# Altium footprint library 电机驱动.PcbLib: 12 footprints
Each footprint in its own frame and in the unit in brackets; x right, y up, seen from the top. Pads: shape width x height; smd on the part's side, far side on the other; paste and mask are expansions set on the pad; w line width, h text height; cw(c..) or ccw(c..) is an arc to the next point about the centre after c.
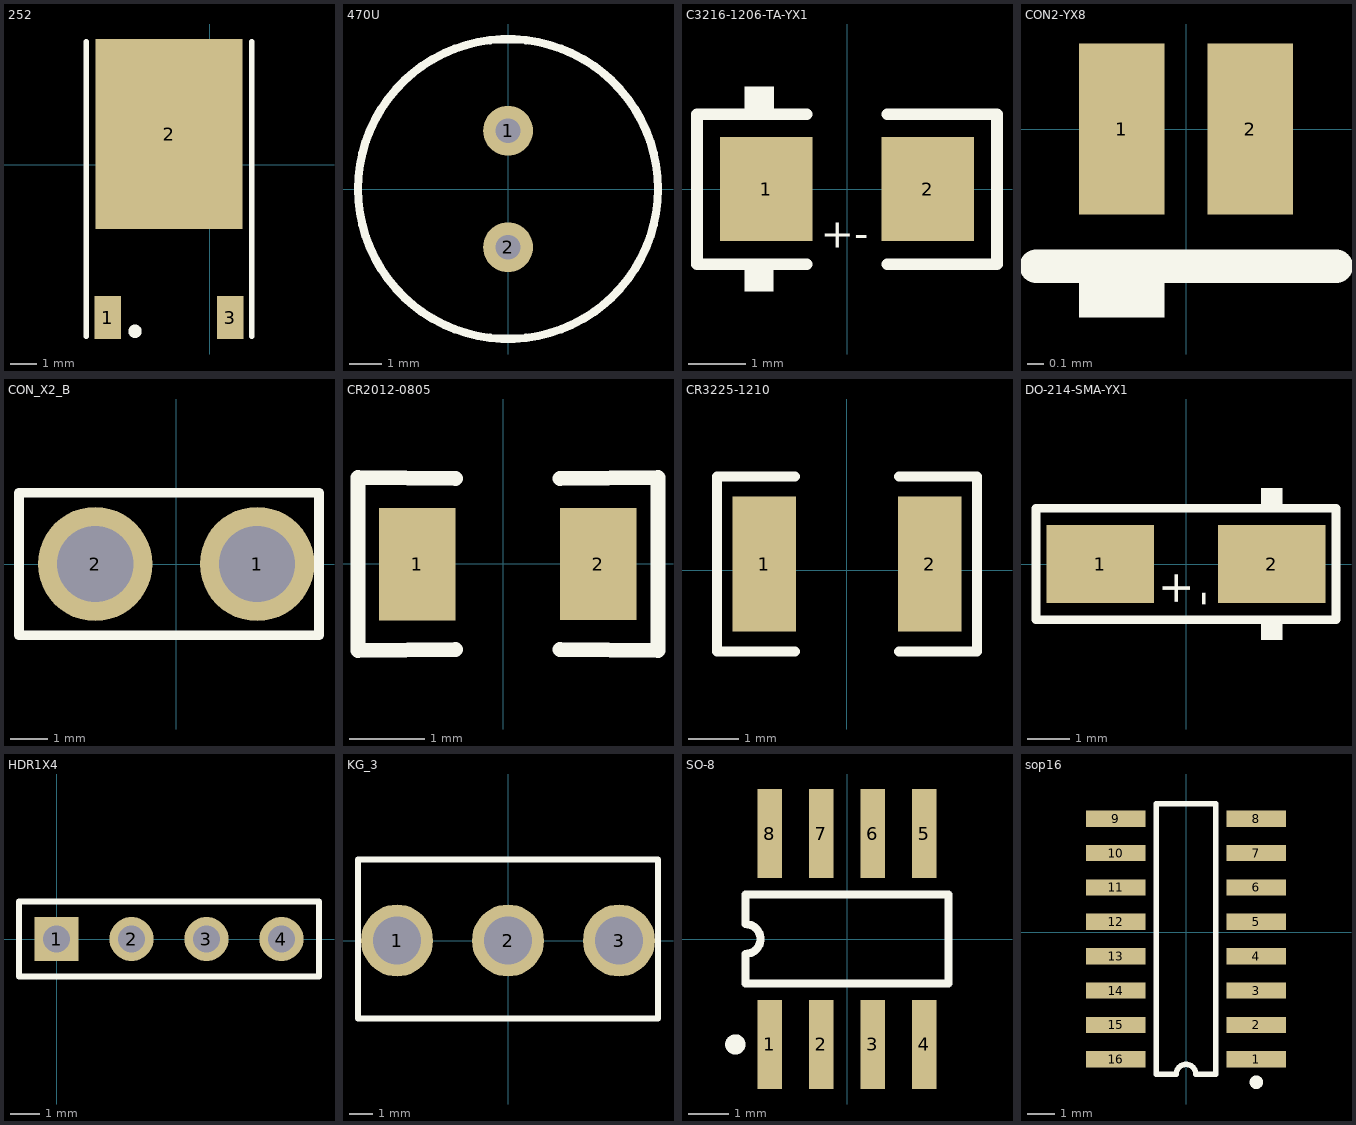
[diagram p0: the footprints below, top view; thin cyan lines are the x and y axes]

## 252 [mm]
pads (3):
  rect 1x1.6 smd: 1(-3.814,-5.71) 3(0.756,-5.71)
  rect 5.5x7.1 smd: 2(-1.529,1.14)
Top Overlay:
  circle w0.25: c-2.797,-6.222 r0.125
  lines w0.2: -4.614,-6.41 -4.614,4.59 ; 1.556,-6.41 1.556,4.59

## 470U [mil]
pads (2):
  round 60 hole 30: 1(-0.19,70.19) 2(-0.19,-69.81)
Top Overlay:
  circle w10: c-0.19,0.19 r180.28

## C3216-1206-TA-YX1 [mm]
pads (2):
  rect 1.6x1.8 smd: 1(-1.4,0) 2(1.4,0)
Top Overlay:
  rectangle: -1.776,1.303 -1.268,1.781
  rectangle: -1.778,-1.778 -1.27,-1.3
  lines w0.2: -0.7,-1.3 -2.6,-1.3 -2.6,1.3 -0.7,1.3 ; 0.7,-1.3 2.6,-1.3 2.6,1.3 0.7,1.3
  text "+" at -0.457,-1.016 h0.51
  text "-" at 0.127,-1.016 h0.51

## CON2-YX8 [mil]
pads (2):
  rect 20x40 smd: 1(-15,0) 2(15,0)
Top Overlay:
  region: -5,-44 -5,-32 -25,-32 -25,-44
  lines w7.87: -35,-32 35,-32

## CON_X2_B [mil]
pads (2):
  round 120 hole 80: 1(84.81,0.19) 2(-85.19,0.19)
Top Overlay:
  lines w10: -165.19,-74.81 -125.19,-74.81 124.81,-74.81 149.81,-74.81 149.81,75.19 124.81,75.19 -125.19,75.19 -165.19,75.19 -165.19,-74.81

## CR2012-0805 [mil]
pads (2):
  rect 40x59.05 smd: 1(-45,0) 2(50,0)
Top Overlay:
  lines w7.87: -25,-45 -76.14,-45.28 -76.14,45.28 -25,45 ; 30,-45 81.34,-45.28 81.34,45.28 30,45

## CR3225-1210 [mil]
pads (2):
  rect 50x106.3 smd: 1(-65,5) 2(65,5)
Top Overlay:
  lines w7.87: -41.1,-63.9 -102.36,-63.9 -102.36,73.9 -41.1,73.9 ; 41.1,-63.9 102.36,-63.9 102.36,73.9 41.1,73.9

## DO-214-SMA-YX1 [mil]
pads (2):
  rect 100x73 smd: 1(-80,0) 2(80,0)
Top Overlay:
  rectangle: 70,-71 90,-51
  rectangle: 70,51 90,71
  lines w8: -140,-52 140,-52 140,52 -140,52 -140,-52
  text "+" at 4,-40 h30
  text "-" at 28,-40 h30

## HDR1X4 [mm]
pads (4):
  rect 1.5x1.5 hole 0.9: 1(-0.005,0.001)
  round 1.5 hole 0.9: 2(2.535,0.001) 3(5.075,0.001) 4(7.615,0.001)
Top Overlay:
  lines w0.2: -1.275,-1.269 -1.275,1.271 8.885,1.271 8.885,-1.269 -1.275,-1.269

## KG_3 [mil]
pads (3):
  round 120 hole 80: 1(-185.19,0.19) 2(-0.19,0.19) 3(184.81,0.19)
Top Overlay:
  lines w10: -250.19,-129.81 -250.19,0.19 -250.19,135.19 249.81,135.19 249.81,-129.81 -250.19,-129.81

## SO-8 [mm]
pads (8):
  rect 0.6x2.2 smd: 1(-1.906,-2.6) 2(-0.636,-2.6) 3(0.634,-2.6) 4(1.904,-2.6) 5(1.904,2.6) 6(0.634,2.6) 7(-0.636,2.6) 8(-1.906,2.6)
Top Overlay:
  circle w0.25: c-2.756,-2.6 r0.125
  lines w0.2: -2.501,-1.1 -2.501,-0.367 ccw(c-2.501,0) -2.501,0.367 -2.501,1.1 2.499,1.1 2.499,-1.1 -2.501,-1.1

## sop16 [mm]
pads (16):
  rect 2.2x0.6 smd: 1(2.595,-4.698) 2(2.595,-3.428) 3(2.595,-2.158) 4(2.595,-0.888) 5(2.595,0.382) 6(2.595,1.652) 7(2.595,2.922) 8(2.595,4.192) 9(-2.605,4.192) 10(-2.605,2.922) 11(-2.605,1.652) 12(-2.605,0.382) 13(-2.605,-0.888) 14(-2.605,-2.158) 15(-2.605,-3.428) 16(-2.605,-4.698)
Top Overlay:
  circle w0.25: c2.595,-5.548 r0.125
  lines w0.2: -1.105,-5.253 -1.105,4.747 1.095,4.747 1.095,-5.253 0.362,-5.253 ccw(c-0.005,-5.253) -0.372,-5.253 -1.105,-5.253